# EAGLE library part PINHD8 (library mille-feuille)
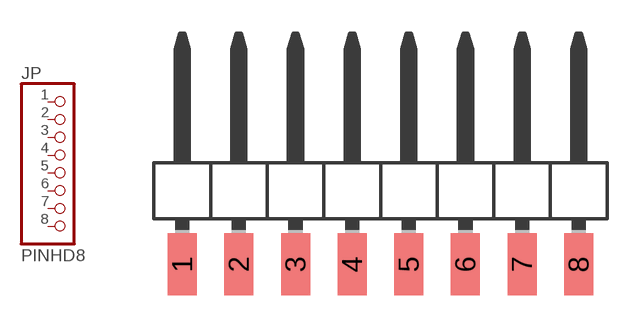
[diagram p20: symbol with the pads of PINHDSMD1X8; footprint PINHDSMD1X8]

Designator prefix JP

## PINHD8  [PINHDSMD1X8]
1  1  pas
2  2  pas
3  3  pas
4  4  pas
5  5  pas
6  6  pas
7  7  pas
8  8  pas

## Footprint PINHDSMD1X8 (pad centres in mm)
smd 1.3 x 2.8: 1 -8.89,-3.3; 2 -6.35,-3.3; 3 -3.81,-3.3; 4 -1.27,-3.3; 5 1.27,-3.3; 6 3.81,-3.3; 7 6.35,-3.3; 8 8.89,-3.3